# Altium schematic symbol library aiskylab-14Connectors-01FFC-FPC.SchLib: 18 symbols
Pins are listed as number, name and electrical type; pins without a type are passive.

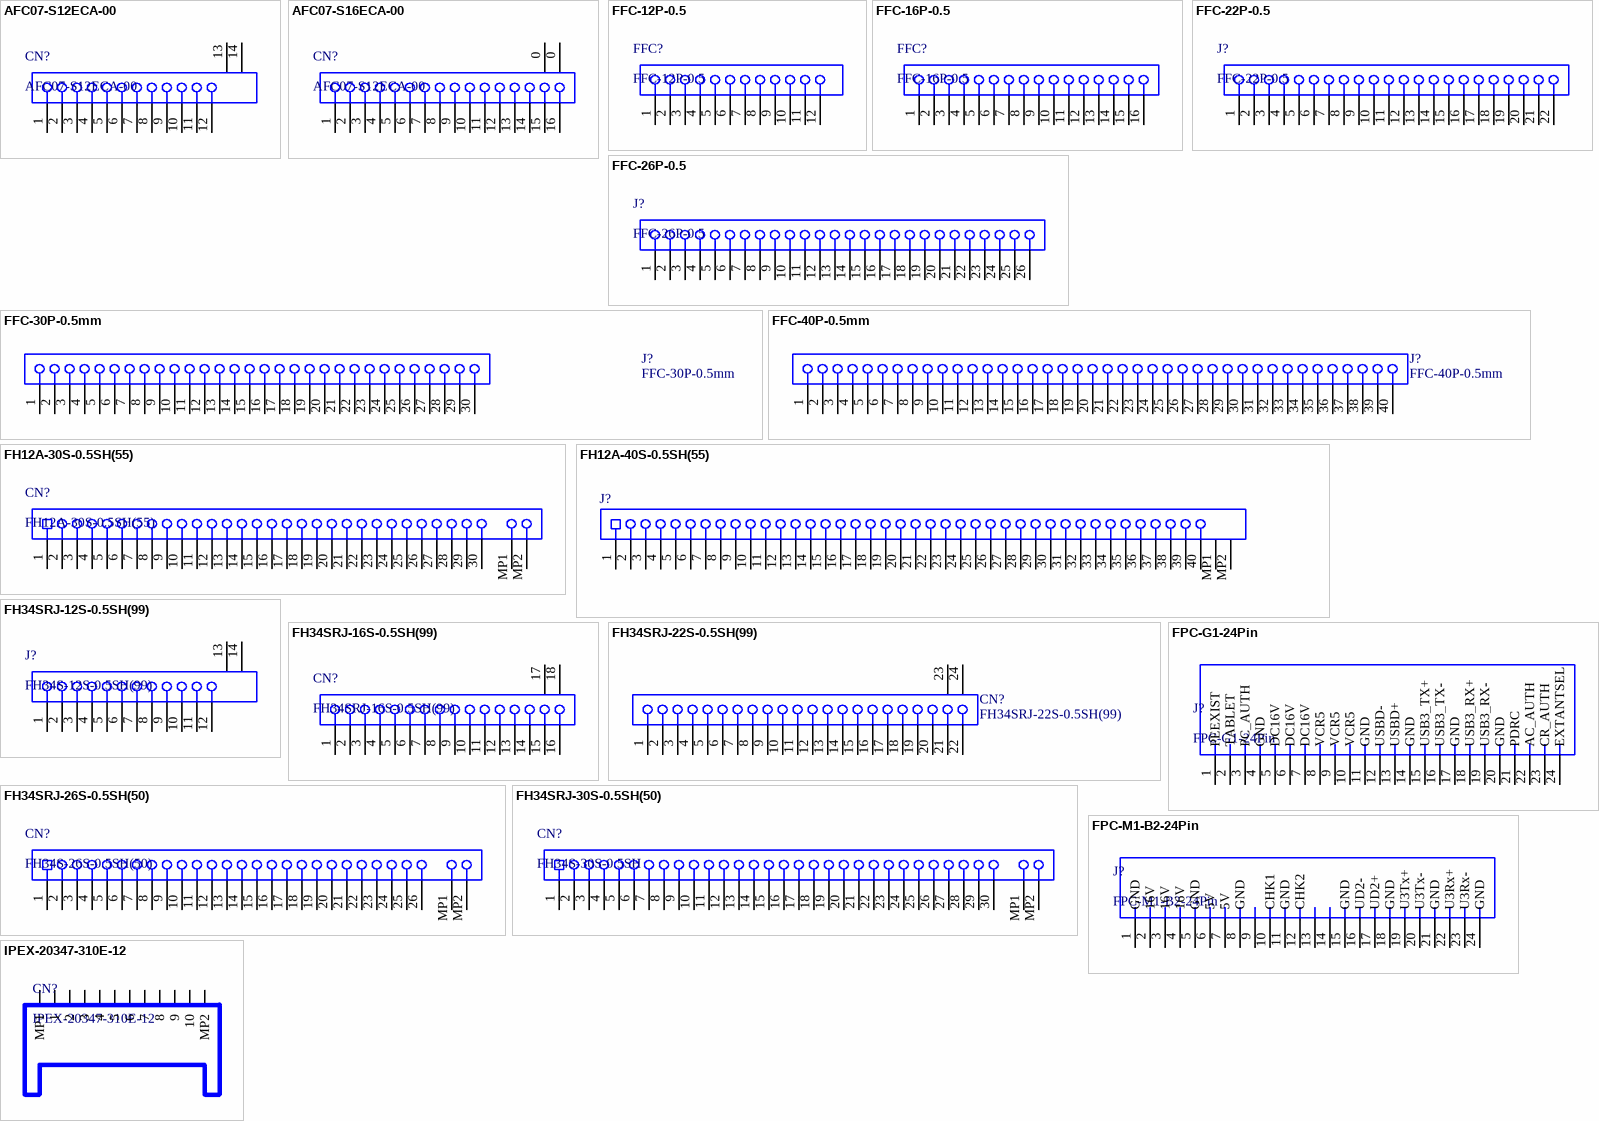
[diagram p0: symbols AFC07-S12ECA-00 to IPEX-20347-310E-12]

## AFC07-S12ECA-00
designator CN?
拉抽式 上接  0.5mm; Manufacture: 钜硕电子
footprint AFC07-S12ECA-00
pins: 1, 2, 3, 4, 5, 6, 7, 8, 9, 10, 11, 12, 13 MH1, 14 MH2

## AFC07-S16ECA-00
designator CN?, comment AFC07-S12ECA-00
拉抽式 上接  0.5mm; Manufacture: 钜硕电子
footprint FPC0.5 2H-WS-16P (长：12.2mm，宽：5.2mm，高：2mm)
pins: 0, 0, 1, 2, 3, 4, 5, 6, 7, 8, 9, 10, 11, 12, 13, 14, 15, 16

## FFC-12P-0.5
designator FFC?
0.5mm 排线端
footprint FFC-12P-0.5
pins: 1, 2, 3, 4, 5, 6, 7, 8, 9, 10, 11, 12

## FFC-16P-0.5
designator FFC?
0.5mm 排线端
footprint FFC-16P-0.5
pins: 1, 2, 3, 4, 5, 6, 7, 8, 9, 10, 11, 12, 13, 14, 15, 16

## FFC-22P-0.5
designator J?
0.5mm 排线端
footprint FFC-22P-0.5
pins: 1, 2, 3, 4, 5, 6, 7, 8, 9, 10, 11, 12, 13, 14, 15, 16, 17, 18, 19, 20, 21, 22

## FFC-26P-0.5
designator J?
0.5mm 排线端
footprint FFC-26P-0.5
pins: 1, 2, 3, 4, 5, 6, 7, 8, 9, 10, 11, 12, 13, 14, 15, 16, 17, 18, 19, 20, 21, 22, 23, 24, 25 21, 26

## FFC-30P-0.5mm
designator J?
0.5mm 排线端; Positions: 40; ContactMaterial: Phosphor Bronze; Current: 0.4A; PCB_Layout: Complies with manufacturer's recommendation.; Published: 17-Jul-2002; DatasheetDocument: 13-Nov-2000; PackageDocument: 13-Nov-2000; PackageReference: FH12-40S-0.5SH; Publisher: AISkyLab; PadDimensions: Follow nominal values, Suitable for Wave Soldering, Adjust for Re-flow.; ComponentLink1Description: Manufacturer Link; ComponentLink1URL: http://mintron-con.com.cn/; ComponentLink2Description: Datasheet; ComponentLink2URL: https://atta.szlcsc.com/upload/public/pdf/source/20190322/C375905_564030E1F3607DBD0AFDB7C51CA5062F.pdf
footprint FFC-30P-0.5
pins: 1, 2, 3, 4, 5, 6, 7, 8, 9, 10, 11, 12, 13, 14, 15, 16, 17, 18, 19, 20, 21, 22, 23, 24, 25, 26, 27, 28, 29, 30

## FFC-40P-0.5mm
designator J?
0.5mm 排线端; Positions: 40; ContactMaterial: Phosphor Bronze; Current: 0.4A; PCB_Layout: Complies with manufacturer's recommendation.; Published: 17-Jul-2002; DatasheetDocument: 13-Nov-2000; PackageDocument: 13-Nov-2000; PackageReference: FH12-40S-0.5SH; Publisher: Altium Limited; PadDimensions: Follow nominal values, Suitable for Wave Soldering, Adjust for Re-flow.; ComponentLink1Description: Manufacturer Link; ComponentLink1URL: http://www.hiroseusa.com/; ComponentLink2Description: Datasheet; ComponentLink2URL: http://www.hirose.co.jp/cataloge_hp/e58605370.pdf
footprint FFC-40P-0.5
pins: 1, 2, 3, 4, 5, 6, 7, 8, 9, 10, 11, 12, 13, 14, 15, 16, 17, 18, 19, 20, 21, 22, 23, 24, 25, 26, 27, 28, 29, 30, 31, 32, 33, 34, 35, 36, 37, 38, 39, 40

## FH12A-30S-0.5SH(55)
designator CN?
Conn FFC/FPC Connector SKT 30 POS 0.5mm Solder RA SMD T/R; Manufacturer: Hirose; Actuator Material: Polyphenylene; Number of Contacts: 30; Wire/Cable Type: Straight; Current Rating: 500mA; Voltage Rating: 50V; Gender: Female; Contact Resistance: 50mR; Max Current Rating: 400mA; Contact Location: Top; Insulation Resistance: 500MR; Mating Cycles: 20; Supplier 1: Digi-Key; Manufacturer Part Number: FH12A-30S-0.5SH(55); RoHS: Yes; Category: FFC / FPC; Stock 1: 2199; Pricing 1: 1=2.20000, 10=1.99400, 25=1.87240, 50=1.79080, 100=1.70940, 250=1.54660, 500=1.42450 (USD); Mount: Surface Mount; Housing Material: Polyamide; Contact Material: Bronze; Contact Plating: Gold; Housing Color: Beige; Material: Polyamide; Color: Beige,Brown; Min Operating Temperature: -40°C; Max Operating Temperature: 70°C; Number of Rows: 1; Orientation: Right Angle; Termination: Solder; Package Quantity: 1; Packaging: Tape and Reel; Number of Positions: 30; Max Voltage Rating (AC): 50V; Voltage Rating (AC): 50V; Length: 19.5mm; Pitch: 0.5mm; Depth: 6.2mm; Lead Pitch: 0.5mm; Width: 19.1mm; Radiation Hardening: No; Flammability Rating: UL94 V-0; Lead Free: Lead Free; REACH SVHC: No SVHC; ComponentLink1URL: https://datasheet.ciiva.com/11745/0900766b80eb81d1-11745008.pdf?src-supplier=RSComponents; ComponentLink1Description: https://datasheet.ciiva.com/11745/0900766b80eb81d1-11745008.pdf?src-supplier=RSComponents; ComponentLink2URL: https://datasheet.ciiva.com/15176/getdatasheetpartid-447851-15176862.pdf?src-supplier=Verical; ComponentLink2Description: https://datasheet.ciiva.com/15176/getdatasheetpartid-447851-15176862.pdf?src-supplier=Verical; ComponentLink3URL: https://datasheet.ciiva.com/22630/58809-22630397.pdf?src-supplier=Farnell; ComponentLink3Description: https://datasheet.ciiva.com/22630/58809-22630397.pdf?src-supplier=Farnell; ComponentLink4URL: https://datasheet.ciiva.com/22697/58809-22697097.pdf?src-supplier=Element14; ComponentLink4Description: https://datasheet.ciiva.com/22697/58809-22697097.pdf?src-supplier=Element14; Supplier Part Number 1: HFK130CT-ND
footprint HIRO-FH12-30S-0.5SH(55)
pins: 1, 2, 3, 4, 5, 6, 7, 8, 9, 10, 11, 12, 13, 14, 15, 16, 17, 18, 19, 20, 21, 22, 23, 24, 25, 26, 27, 28, 29, 30, MP1, MP2

## FH12A-40S-0.5SH(55)
designator J?
Flip Lock Conncetor for FPC/FFC, 1 x 40 Position, Pitch 0.5 mm, -40 to 70 degC, SMD, RoHS, Tape and Reel; Manufacturer: Hirose Electric; Manufacturer: Hirose; Pitch: 0.5mm; Style/Orientation: RightAngleSocket/Receptacle; No of Positions: 40; Package Description: Female Header, Pitch 0.5 mm, 1 x 40 Position, Height 2 mm; Datasheet Version: 10/2006; Termination: Solder; Manufacturer URL: https://www.hirose.com; Mounting Technology: SurfaceMount; Type: FFC/FPC; Package Reference: FH12A-40S-0.5SH(55); Datasheet URL: https://datasheet.ciiva.com/14667/0900766b80806912-14667338.pdf; Manufacturer Part Number: FH12A-40S-0.5SH(55)
footprint HIRO-FH12A-40S-0.5SH(55)_V (SMD, 40-Leads, Body 24.5x6.2mm, Pitch 0.5mm)
pins: 1, 2, 3, 4, 5, 6, 7, 8, 9, 10, 11, 12, 13, 14, 15, 16, 17, 18, 19, 20, 21, 22, 23, 24, 25, 26, 27, 28, 29, 30, 31, 32, 33, 34, 35, 36, 37, 38, 39, 40, MP1, MP2

## FH34SRJ-12S-0.5SH(99)
designator J?, comment FH34S-12S-0.5SH(99)
CONN FPC/FFC 12POS .5MM; Manufacturer: Hirose; Manufacturer Part Number: FH34SRJ-12S-0.5SH(99); Actuator Material: Nylon,Polyamide; Number of Positions: 12; Voltage Rating: 50V; Current Rating: 500mA; Pitch: 0.02inch; Supplier 1: Digi-Key; RoHS: Yes; Category: FFC / FPC; Stock 1: 836; Pricing 1: 1=2.64000, 10=2.39900, 25=2.25160, 50=2.15380, 100=2.05590, 250=1.86012 (USD); Mount: Surface Mount; Number of Pins: 12; Contact Material: Bronze; Housing Material: Polymer; Contact Plating: Gold; Min Operating Temperature: -55°C; Max Operating Temperature: 85°C; Packaging: Tape and Reel; Termination: Solder; Flammability Rating: UL94 V-0; Lead Free: Lead Free; ComponentLink1URL: https://www.mouser.com/ds/2/185/e58012017-1279271.pdf?src-supplier=Mouser; ComponentLink1Description: https://www.mouser.com/ds/2/185/e58012017-1279271.pdf?src-supplier=Mouser; ComponentLink2URL: https://www.hirose.com/product/en/download_file/key_name/FH34SRJ/category/Catalog/doc_file_id/31646/?file_category_id=4&item_id=27&is_series=1&src-supplier=Digi-Key; ComponentLink2Description: https://www.hirose.com/product/en/download_file/key_name/FH34SRJ/category/Catalog/doc_file_id/31646/?file_category_id=4&item_id=27&is_series=1&src-supplier=Digi-Key; Supplier Part Number 1: H124720CT-ND
footprint FH34SRJ-12S-0.5SH
pins: 1, 2, 3, 4, 5, 6, 7, 8, 9, 10, 11, 12, 13 MH1, 14 MH2

## FH34SRJ-16S-0.5SH(99)
designator CN?
FFC & FPC Connectors; Manufacturer: Hirose; Actuator Material: Nylon,Polyamide; Number of Positions: 16; Voltage Rating: 50V; Current Rating: 500mA; Pitch: 0.02inch; Supplier 1: Digi-Key; Manufacturer Part Number: FH34SRJ-16S-0.5SH(99); RoHS: Yes; Category: FFC / FPC; Stock 1: 448; Pricing 1: 1=2.50000, 10=2.40200, 25=2.20240, 50=2.10220, 100=2.00200, 250=1.75176 (USD); Mount: Surface Mount; Number of Pins: 16; Housing Material: Polymer; Contact Material: Bronze; Contact Plating: Gold; Min Operating Temperature: -55°C; Max Operating Temperature: 85°C; Packaging: Tape and Reel; Termination: Solder; Flammability Rating: UL94 V-0; ComponentLink1URL: https://www.hirose.com/product/document?clcode=CL0580-1259-7-99&productname=FH34SRJ-16S-0.5SH(99)&series=FH34SRJ&documenttype=Catalog&lang=en&documentid=zh_FH34_CAT; ComponentLink1Description: 说明; Supplier Part Number 1: H124722CT-ND; ComponentLink2Description: DrawingDatasheet; ComponentLink2URL: https://www.hirose.com/product/document?clcode=CL0580-1259-7-99&productname=FH34SRJ-16S-0.5SH(99)&series=FH34SRJ&documenttype=2DDrawing&lang=en&documentid=0000990903
footprint FH34SRJ-16S-0.5SH
pins: 1, 2, 3, 4, 5, 6, 7, 8, 9, 10, 11, 12, 13, 14, 15, 16, 17, 18

## FH34SRJ-22S-0.5SH(99)
designator CN?
CONN FPC/FFC 22POS .5MM; Manufacturer: Hirose; Actuator Material: Nylon,Polyamide; Number of Positions: 22; Voltage Rating: 50V; Current Rating: 500mA; Pitch: 0.02inch; Supplier 1: Digi-Key; Manufacturer Part Number: FH34SRJ-22S-0.5SH(99); RoHS: Yes; Category: FFC / FPC; Stock 1: 434; Pricing 1: 1=2.70000, 10=2.58700, 25=2.37160, 50=2.26380, 100=2.15600, 250=1.88652 (USD); Mount: Surface Mount; Number of Pins: 22; Contact Material: Bronze; Contact Plating: Gold; Housing Material: Polymer; Min Operating Temperature: -55°C; Max Operating Temperature: 85°C; Packaging: Tape and Reel; Termination: Solder; Flammability Rating: UL94 V-0; ComponentLink1URL: https://www.hirose.com/product/en/download_file/key_name/FH34SRJ/category/Catalog/doc_file_id/31646/?file_category_id=4&item_id=27&is_series=1&src-supplier=Digi-Key; ComponentLink1Description: https://www.hirose.com/product/en/download_file/key_name/FH34SRJ/category/Catalog/doc_file_id/31646/?file_category_id=4&item_id=27&is_series=1&src-supplier=Digi-Key; Supplier Part Number 1: H124724CT-ND
footprint FH34SRJ-22S-0.5SH
pins: 1, 2, 3, 4, 5, 6, 7, 8, 9, 10, 11, 12, 13, 14, 15, 16, 17, 18, 19, 20, 21, 22, 23 MH1, 24 MH2

## FH34SRJ-26S-0.5SH(50)
designator CN?, comment FH34S-26S-0.5SH(50)
CONN FFC TOP 26POS 0.50MM R/A; Manufacturer: Hirose; Actuator Material: Nylon,Polyamide; Number of Positions: 26; Current Rating: 500mA; Voltage Rating: 50V; Gender: Receptacle; Contact Location: Dual; Pitch: 0.02inch; Supplier 1: Farnell; Manufacturer Part Number: FH34S-26S-0.5SH(50); RoHS: Yes; Category: FFC / FPC; Pricing 1: 1=1.12000, 150=1.09000, 400=1.01000, 1250=0.97300, 2500=0.92200 (GBP); Mount: Surface Mount; Housing Material: Polymer; Contact Material: Bronze; Contact Plating: Gold; Min Operating Temperature: -55°C; Max Operating Temperature: 85°C; Termination: SMD/SMT; Packaging: Tape and Reel; Package Quantity: 5000; Number of Rows: 1; Number of Contacts: 26; Flammability Rating: UL94 V-0; REACH SVHC: No SVHC; Lead Free: Lead Free; ComponentLink1URL: https://datasheet.ciiva.com/5137/e58012017-27597-5137520.pdf?src-supplier=Mouser; ComponentLink1Description: https://datasheet.ciiva.com/5137/e58012017-27597-5137520.pdf?src-supplier=Mouser; ComponentLink2URL: https://datasheet.ciiva.com/46408/1693466-46408150.pdf?src-supplier=Element14; ComponentLink2Description: https://datasheet.ciiva.com/46408/1693466-46408150.pdf?src-supplier=Element14; Supplier Part Number 1: 2427795
footprint FH34SRJ-26S-0.5SH(50)
pins: 1, 2, 3, 4, 5, 6, 7, 8, 9, 10, 11, 12, 13, 14, 15, 16, 17, 18, 19, 20, 21, 22, 23, 24, 25, 26, MP1, MP2

## FH34SRJ-30S-0.5SH(50)
designator CN?, comment FH34S-30S-0.5SH
CONN FFC FPC 30POS 0.50MM R/A; Manufacturer: Hirose; Manufacturer Part Number: FH34SRJ-30S-0.5SH(50); Actuator Material: Nylon,Polyamide; Current Rating: 500mA; Voltage Rating: 50V; Number of Positions: 30; Wire/Cable Type: Flat Flex; Insulation Resistance: 500MR; Gender: Receptacle; Pitch: 0.02inch; Supplier 1: Digi-Key; RoHS: Yes; Category: FFC / FPC; Stock 1: 3638; Pricing 1: 1=2.61000, 10=2.37200, 25=2.22640, 50=2.12960, 100=2.03280, 250=1.83920, 500=1.69400 (USD); Mount: Surface Mount; Contact Material: Bronze; Contact Plating: Gold; Housing Material: Polymer; Min Operating Temperature: -55°C; Max Operating Temperature: 85°C; Package Quantity: 5000; Packaging: Tape and Reel; Termination: SMD/SMT; Number of Rows: 1; Number of Contacts: 30; Flammability Rating: UL94 V-0; Lead Free: Lead Free; REACH SVHC: Unknown; ComponentLink1URL: https://datasheet.ciiva.com/46408/1693466-46408167.pdf?src-supplier=Element14; ComponentLink1Description: https://datasheet.ciiva.com/46408/1693466-46408167.pdf?src-supplier=Element14; Supplier Part Number 1: HFT430CT-ND
footprint FH34SRJ-30S-0.5SH(50)
pins: 1, 2, 3, 4, 5, 6, 7, 8, 9, 10, 11, 12, 13, 14, 15, 16, 17, 18, 19, 20, 21, 22, 23, 24, 25, 26, 27, 28, 29, 30, MP1, MP2

## FPC-G1-24Pin
designator J?
FPC金手指
footprint godernFinger-24P
pins: 1 PEEXIST, 2 TABLET, 3 PC_AUTH, 4 GND, 5 DC16V, 6 DC16V, 7 DC16V, 8 VCR5, 9 VCR5, 10 VCR5, 11 GND, 12 USBD-, 13 USBD+, 14 GND, 15 USB3_TX+, 16 USB3_TX-, 17 GND, 18 USB3_RX+, 19 USB3_RX-, 20 GND, 21 PDRC, 22 AC_AUTH, 23 CR_AUTH, 24 EXTANTSEL

## FPC-M1-B2-24Pin
designator J?
FPC金手指
footprint godernFinger-24P
pins: 1 GND, 2 16V, 3 16V, 4 16V, 5 GND, 6 5V, 7 5V, 8 GND, 9, 10 CHK1, 11 GND, 12 CHK2, 13, 14, 15 GND, 16 UD2-, 17 UD2+, 18 GND, 19 U3Tx+, 20 U3Tx-, 21 GND, 22 U3Rx+, 23 U3Rx-, 24 GND

## IPEX-20347-310E-12
designator CN?
0.4mm Pitch I-PEX, 10Pin; Manufactural: Verical; ManufacturalNum: 20347-310E-12E; ComponentLink1Description: Datasheet; ComponentLink1URL: https://www.verical.com/datasheet/ipex-connectors-ffc-fpc-20347-310E-12R-7001963.pdf
footprint IPEX-20347-310E-12 (0.4mm  10Pos)
pins: 1, 2, 3, 4, 5, 6, 7, 8, 9, 10, MP1, MP2